# Altium footprint library GRC PCB library.PcbLib: 166 footprints (part 5 of 11)
Each footprint in its own frame and in the unit in brackets; x right, y up, seen from the top. Pads: shape width x height; smd on the part's side, far side on the other; paste and mask are expansions set on the pad; w line width, h text height; cw(c..) or ccw(c..) is an arc to the next point about the centre after c.
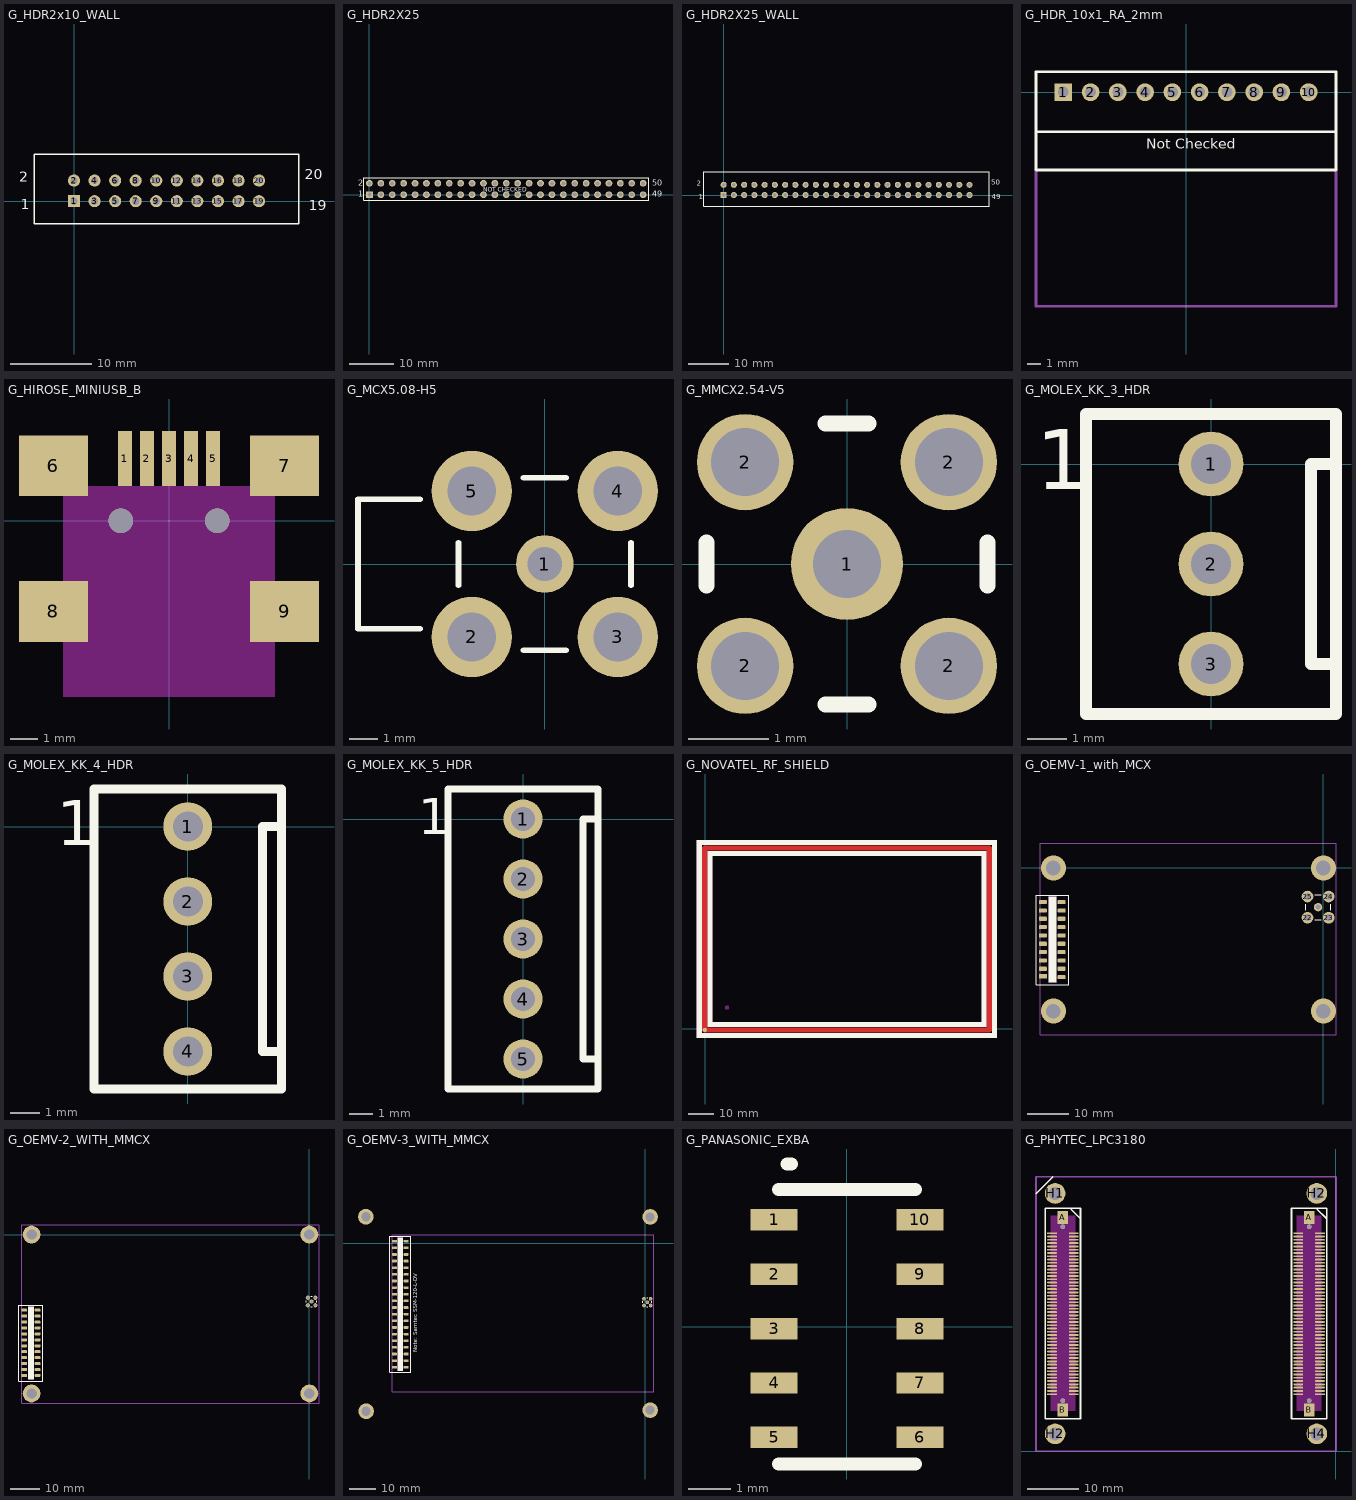
[diagram p4: the footprints below, top view; thin cyan lines are the x and y axes]

## G_HDR2x10_WALL [mm] "Connector; Wall Header; 10x2 Position"
height 8
pads (20):
  rect 1.5x1.5 hole 0.9: 1(0,0)
  round 1.5 hole 0.9: 2(0,2.54) 3(2.54,0) 4(2.54,2.54) 5(5.08,0) 6(5.08,2.54) 7(7.62,0) 8(7.62,2.54) 9(10.16,0) 10(10.16,2.54) 11(12.7,0) 12(12.7,2.54) 13(15.24,0) 14(15.24,2.54) 15(17.78,0) 16(17.78,2.54) 17(20.32,0) 18(20.32,2.54) 19(22.86,0) 20(22.86,2.54)
Top Overlay:
  lines w0.2: -4.928,-2.794 -4.928,5.791 1.905,5.791 27.788,5.791 27.788,-2.794 1.905,-2.794 -4.928,-2.794
  text "19" at 29,-1.1 h1.27
  text "20" at 28.5,2.7 h1.27
  text "1" at -6.6,-1 h1.27
  text "2" at -6.8,2.4 h1.27

## G_HDR2X25 [mm] "Connector; Header; 25x2 Position"
height 8
pads (50):
  rect 1.5x1.5 hole 0.9: 1(0,0)
  round 1.5 hole 0.9: 2(0,2.54) 3(2.54,0) 4(2.54,2.54) 5(5.08,0) 6(5.08,2.54) 7(7.62,0) 8(7.62,2.54) 9(10.16,0) 10(10.16,2.54) 11(12.7,0) 12(12.7,2.54) 13(15.24,0) 14(15.24,2.54) 15(17.78,0) 16(17.78,2.54) 17(20.32,0) 18(20.32,2.54) 19(22.86,0) 20(22.86,2.54) 21(25.4,0) 22(25.4,2.54) 23(27.94,0) 24(27.94,2.54) 25(30.48,0) 26(30.48,2.54) 27(33.02,0) 28(33.02,2.54) 29(35.56,0) 30(35.56,2.54) 31(38.1,0) 32(38.1,2.54) 33(40.64,0) 34(40.64,2.54) 35(43.18,0) 36(43.18,2.54) 37(45.72,0) 38(45.72,2.54) 39(48.26,0) 40(48.26,2.54) 41(50.8,0) 42(50.8,2.54) 43(53.34,0) 44(53.34,2.54) 45(55.88,0) 46(55.88,2.54) 47(58.42,0) 48(58.42,2.54) 49(60.96,0) 50(60.96,2.54)
Top Overlay:
  lines w0.2: -1.27,-1.27 -1.27,3.81 62.23,3.81 62.23,-1.27 -1.27,-1.27
  text "NOT CHECKED" at 25.3,0.7 h1
  text "2" at -2.54,2.032 h1.27
  text "1" at -2.54,-0.508 h1.27
  text "49" at 62.992,-0.508 h1.27
  text "50" at 62.992,2.032 h1.27

## G_HDR2X25_WALL [mm] "Connector; Wall Header; 25x2 Position,"
height 8
pads (50):
  rect 1.5x1.5 hole 0.9: 1(0,0)
  round 1.5 hole 0.9: 2(0,2.54) 3(2.54,0) 4(2.54,2.54) 5(5.08,0) 6(5.08,2.54) 7(7.62,0) 8(7.62,2.54) 9(10.16,0) 10(10.16,2.54) 11(12.7,0) 12(12.7,2.54) 13(15.24,0) 14(15.24,2.54) 15(17.78,0) 16(17.78,2.54) 17(20.32,0) 18(20.32,2.54) 19(22.86,0) 20(22.86,2.54) 21(25.4,0) 22(25.4,2.54) 23(27.94,0) 24(27.94,2.54) 25(30.48,0) 26(30.48,2.54) 27(33.02,0) 28(33.02,2.54) 29(35.56,0) 30(35.56,2.54) 31(38.1,0) 32(38.1,2.54) 33(40.64,0) 34(40.64,2.54) 35(43.18,0) 36(43.18,2.54) 37(45.72,0) 38(45.72,2.54) 39(48.26,0) 40(48.26,2.54) 41(50.8,0) 42(50.8,2.54) 43(53.34,0) 44(53.34,2.54) 45(55.88,0) 46(55.88,2.54) 47(58.42,0) 48(58.42,2.54) 49(60.96,0) 50(60.96,2.54)
Top Overlay:
  lines w0.2: -4.928,-2.794 -4.928,5.791 65.888,5.791 65.888,-2.794 -4.928,-2.794
  text "50" at 66.4,2.5 h1.27
  text "49" at 66.5,-1.1 h1.27
  text "1" at -6.2,-1 h1.27
  text "2" at -6.6,2.3 h1.27

## G_HDR_10x1_RA_2mm [mm] "Hirose DF3 series 10x1 Header 2mm Right Angle"
height 5
pads (10):
  rect 1.3x1.3 hole 0.8: 1(-9,0)
  round 1.3 hole 0.8: 2(-7,0) 3(-5,0) 4(-3,0) 5(-1,0) 6(1,0) 7(3,0) 8(5,0) 9(7,0) 10(9,0)
Top Overlay:
  lines w0.2: -11,-2.9 11,-2.9 ; -11,-5.7 11,-5.7 11,1.5 -11,1.5 -11,-5.7
  text "Not Checked" at -2.9,-4.4 h1.3
Mechanical 13:
  lines w0.2: -11,-5.7 -11,-15.7 11,-15.7 11,-5.7

## G_HIROSE_MINIUSB_B [mm]
pads (9):
  rect 0.5x2 smd: 1(-1.6,2.25) 2(-0.8,2.25) 3(0,2.25) 4(0.8,2.25) 5(1.6,2.25)
  rect 2.5x2.2 smd: 6(-4.2,2) 7(4.2,2) 8(-4.2,-3.3) 9(4.2,-3.3)
via -1.75,0 diameter 0.9 hole 0.9
via 1.75,0 diameter 0.9 hole 0.9
Keep-Out Layer:
  rectangle: -3.85,-6.4 3.85,1.25

## G_MCX5.08-H5 [mm] "Connector; RF Coaxial, MCX, Thru-Hole; 5 Position; Right-Angle"
height 5.85
pads (5):
  round 2 hole 1.2: 1(0,0)
  round 2.8 hole 1.7: 2(-2.54,-2.54) 3(2.54,-2.54) 4(2.54,2.54) 5(-2.54,2.54)
Top Overlay:
  lines w0.2: -4.34,-2.25 -6.5,-2.25 -6.5,2.25 -4.34,2.25 ; -3,-0.74 -3,0.74 ; -0.74,-3 0.74,-3 ; -0.74,3 0.74,3 ; 3,-0.74 3,0.74

## G_MMCX2.54-V5 [mm] "Connector; RF Coaxial, MMCX, Thru-Hole; 5 Position; Vertical"
height 4.45
pads (5):
  round 1.4 hole 0.85: 1(0,0)
  round 1.2 hole 0.85: 2(-1.27,-1.27) 2(-1.27,1.27) 2(1.27,-1.27) 2(1.27,1.27)
Top Overlay:
  lines w0.2: -1.75,-0.27 -1.75,0.27 ; -0.27,-1.75 0.27,-1.75 ; -0.27,1.75 0.27,1.75 ; 1.75,-0.27 1.75,0.27

## G_MOLEX_KK_3_HDR [mil]
height 472.44
pads (3):
  round 65 hole 40: 1(0,0) 2(0,-100) 3(0,-200)
Top Overlay:
  lines w12: 125,-225 125,-250 ; 125,-200 100,-200 100,0 125,0 ; 125,-250 125,50 -125,50 -125,-250 125,-250
  text "1" at -175,-25 h60

## G_MOLEX_KK_4_HDR [mil]
height 472.44
pads (4):
  round 65 hole 40: 1(0,0) 2(0,-100) 3(0,-200) 4(0,-300)
Top Overlay:
  lines w12: 125,-300 100,-300 100,0 125,0 ; -125,-350 125,-350 125,50 -125,50 -125,-350
  text "1" at -175,-25 h60

## G_MOLEX_KK_5_HDR [mil]
height 472.44
pads (5):
  round 65 hole 40: 1(0,0) 2(0,-100) 3(0,-200) 4(0,-300) 5(0,-400)
Top Overlay:
  lines w12: 125,-400 100,-400 100,0 125,0 ; -125,-450 -125,50 125,50 125,-450 -125,-450
  text "1" at -175,-25 h60

## G_NOVATEL_RF_SHIELD [mm] "RF metallic shield (box type) for Novatel OEMV-2 boards"
pads (2):
  round 1.651 smd: 0(-0.3,-0.4)
  round 1.651 on Keep-Out: " "(8.45,8.35)
Top Layer:
  lines w2: -0.3,-0.4 -0.3,70.6 110.7,70.6 110.7,-0.4 -0.3,-0.4
Top Overlay keep-out:
  region: 113.7,73.6 113.7,71.8 -3.3,71.8 -3.3,73.6
  region: 2.7,0.8 2.7,69.4 0.9,69.4 0.9,0.8
  region: 113.7,-3.4 113.7,72.6 111.9,72.6 111.9,-3.4
  region: -3.3,-3.4 -3.3,-1.6 113.7,-1.6 113.7,-3.4
  region: 109.5,69.4 109.5,67.6 0.9,67.6 0.9,69.4
  region: 109.5,0.8 109.5,69.4 107.7,69.4 107.7,0.8
  region: 0.9,0.8 0.9,2.6 109.5,2.6 109.5,0.8
  region: -3.3,-3.4 -3.3,73.6 -1.5,73.6 -1.5,-3.4

## G_OEMV-1_with_MCX [mm]
pads (25):
  rect 1.91x1.016 smd: 1(-67.25,-26)
  rrect50% 1.91x1.016 smd: 2(-62.806,-26.2) 3(-67.3,-24.2) 4(-62.806,-24.2) 5(-67.3,-22.2) 6(-62.806,-22.2) 7(-67.3,-20.2) 8(-62.806,-20.2) 9(-67.3,-18.2) 10(-62.806,-18.2) 11(-67.3,-16.2) 12(-62.806,-16.2) 13(-67.3,-14.2) 14(-62.806,-14.2) 15(-67.3,-12.2) 16(-62.806,-12.2) 17(-67.3,-10.2) 18(-62.806,-10.2) 19(-67.3,-8.2) 20(-62.806,-8.2)
  round 2 hole 1.2: 21(-1.25,-9.4)
  round 2.8 hole 1.7: 22(-3.79,-11.94) 23(1.29,-11.94) 24(1.29,-6.86) 25(-3.79,-6.86)
via -64.8,-34.35 diameter 6 hole 3.5
via 0,-34.35 diameter 6 hole 3.5
via 0,0 diameter 6 hole 3.5
via -64.8,0 diameter 6 hole 3.5
Top Overlay:
  lines w0.2: -4.25,-10.14 -4.25,-8.66 ; -1.99,-12.4 -0.51,-12.4 ; -1.99,-6.4 -0.51,-6.4 ; 1.75,-10.14 1.75,-8.66 ; -68.95,-28 -68.95,-6.5 -61.05,-6.5 -61.05,-28 -68.95,-28
Top Overlay keep-out:
  rectangle: -66,-27.45 -64,-6.9
Mechanical 13:
  lines w0.2: -67.95,-40.05 -67.95,5.95 3.05,5.95 3.05,-40.05 -67.95,-40.05

## G_OEMV-2_WITH_MMCX [mm]
pads (33):
  rect 1.91x1.016 smd: 1(-96,-47.45)
  rrect50% 1.91x1.016 smd: 2(-91.506,-47.45) 3(-96,-45.45) 4(-91.506,-45.45) 5(-96,-43.45) 6(-91.506,-43.45) 7(-96,-41.45) 8(-91.506,-41.45) 9(-96,-39.45) 10(-91.506,-39.45) 11(-96,-37.45) 12(-91.506,-37.45) 13(-96,-35.45) 14(-91.506,-35.45) 15(-96,-33.45) 16(-91.506,-33.45) 17(-96,-31.45) 18(-91.506,-31.45) 19(-96,-29.45) 20(-91.506,-29.45) 21(-96,-27.45) 22(-91.506,-27.45) 23(-96,-25.45) 24(-91.506,-25.45)
  round 1.4 hole 0.85: 25(0.75,-22.55) 26(-0.52,-23.82) 27(2.02,-23.82) 28(2.02,-21.28) 29(-0.52,-21.28)
  round 6 hole 3.5: " "(-93.5,-53.5) " "(-93.5,0) " "(0,-53.5) " "(0,0)
Top Overlay:
  lines w0.2: -1,-22.82 -1,-22.28 ; 0.48,-24.3 1.02,-24.3 ; 0.48,-20.8 1.02,-20.8 ; 2.5,-22.82 2.5,-22.28 ; -97.75,-49.35 -97.75,-23.75 -89.75,-23.75 -89.75,-49.35 -97.75,-49.35
Top Overlay keep-out:
  rectangle: -94.8,-48.8 -92.7,-24.2
Mechanical 13:
  lines w0.305: -96.75,-56.75 3.25,-56.75 3.25,3.25 -96.75,3.25 -96.75,-56.75

## G_OEMV-3_WITH_MMCX [mm] "Novatel OEM v3"
pads (49):
  rect 1.91x1.016 smd: 1(-96,-47.45)
  rrect50% 1.91x1.016 smd: 2(-91.506,-47.45) 3(-96,-44.91) 3(-96,-42.37) 3(-96,-39.83) 3(-96,-37.29) 3(-96,-34.75) 3(-96,-32.21) 3(-96,-29.67) 3(-96,-27.13) 3(-96,-24.59) 3(-96,-22.05) 3(-96,-19.51) 3(-96,-16.97) 3(-96,-14.43) 3(-96,-11.89) 3(-96,-9.35) 3(-96,-6.81) 3(-96,-4.27) 3(-96,-1.73) 3(-96,0.81) 4(-91.506,-44.91) 4(-91.506,-42.37) 4(-91.506,-39.83) 4(-91.506,-37.29) 4(-91.506,-34.75) 4(-91.506,-32.21) 4(-91.506,-29.67) 4(-91.506,-27.13) 4(-91.506,-24.59) 4(-91.506,-22.05) 4(-91.506,-19.51) 4(-91.506,-16.97) 4(-91.506,-14.43) 4(-91.506,-11.89) 4(-91.506,-9.35) 4(-91.506,-6.81) 4(-91.506,-4.27) 4(-91.506,-1.73) 4(-91.506,0.81)
  round 1.4 hole 0.85: 25(0.75,-22.55) 26(-0.52,-23.82) 27(2.02,-23.82) 28(2.02,-21.28) 29(-0.52,-21.28)
  round 6 hole 3.5: " "(-106.925,10.15) " "(-106.825,-64.275) " "(1.85,-63.85) " "(1.85,10.075)
Top Overlay:
  lines w0.2: -1,-22.82 -1,-22.28 ; 0.48,-24.3 1.02,-24.3 ; 0.48,-20.8 1.02,-20.8 ; 2.5,-22.82 2.5,-22.28 ; -97.75,-49.35 -89.75,-49.35 -89.75,2.725 -97.75,2.725 -97.75,-49.35
  text "Note: Samtec SSM-120-L-DV" at -87.275,-41.75 h1.52
Top Overlay keep-out:
  rectangle: -94.8,-48.8 -92.7,2.175
Mechanical 13:
  lines w0.305: -96.75,-56.75 -96.75,3.25 3.25,3.25 3.25,-56.75 -96.75,-56.75

## G_PANASONIC_EXBA [mm] "0603 x 5 footprint for resistor networks"
height 3.3
pads (10):
  rect 1.1x0.5 smd: 1(-1.7,2.5) 2(-1.7,1.23) 3(-1.7,-0.04) 4(-1.7,-1.31) 5(-1.7,-2.58) 6(1.7,-2.58) 7(1.7,-1.31) 8(1.7,-0.04) 9(1.7,1.23) 10(1.7,2.5)
Top Overlay:
  lines w0.305: -1.6,-3.2 1.6,-3.2 ; -1.6,3.2 1.6,3.2 ; -1.4,3.8 -1.3,3.8

## G_PHYTEC_LPC3180 [mm]
pads (212):
  rect 1.9x0.35 smd: 1A(-54.9,42.108) 1C(-7.3,42.108)
  oval 1.9x0.35 smd: 1B(-50.7,42.108) 1D(-3.1,42.108) 2A(-54.9,41.473) 2B(-50.7,41.473) 2C(-7.3,41.473) 2D(-3.1,41.473) 3A(-54.9,40.838) 3B(-50.7,40.838) 3C(-7.3,40.838) 3D(-3.1,40.838) 4A(-54.9,40.203) 4B(-50.7,40.203) 4C(-7.3,40.203) 4D(-3.1,40.203) 5A(-54.9,39.568) 5B(-50.7,39.568) 5C(-7.3,39.568) 5D(-3.1,39.568) 6A(-54.9,38.933) 6B(-50.7,38.933) 6C(-7.3,38.933) 6D(-3.1,38.933) 7A(-54.9,38.298) 7B(-50.7,38.298) 7C(-7.3,38.298) 7D(-3.1,38.298) 8A(-54.9,37.663) 8B(-50.7,37.663) 8C(-7.3,37.663) 8D(-3.1,37.663) 9A(-54.9,37.028) 9B(-50.7,37.028) 9C(-7.3,37.028) 9D(-3.1,37.028) 10A(-54.9,36.393) 10B(-50.7,36.393) 10C(-7.3,36.393) 10D(-3.1,36.393) 11A(-54.9,35.758) 11B(-50.7,35.758) 11C(-7.3,35.758) 11D(-3.1,35.758) 12A(-54.9,35.123) 12B(-50.7,35.123) 12C(-7.3,35.123) 12D(-3.1,35.123) 13A(-54.9,34.488) 13B(-50.7,34.488) 13C(-7.3,34.488) 13D(-3.1,34.488) 14A(-54.9,33.853) 14B(-50.7,33.853) 14C(-7.3,33.853) 14D(-3.1,33.853) 15A(-54.9,33.218) 15B(-50.7,33.218) 15C(-7.3,33.218) 15D(-3.1,33.218) 16A(-54.9,32.583) 16B(-50.7,32.583) 16C(-7.3,32.583) 16D(-3.1,32.583) 17A(-54.9,31.948) 17B(-50.7,31.948) 17C(-7.3,31.948) 17D(-3.1,31.948) 18A(-54.9,31.313) 18B(-50.7,31.313) 18C(-7.3,31.313) 18D(-3.1,31.313) 19A(-54.9,30.678) 19B(-50.7,30.678) 19C(-7.3,30.678) 19D(-3.1,30.678) 20A(-54.9,30.043) 20B(-50.7,30.043) 20C(-7.3,30.043) 20D(-3.1,30.043) 21A(-54.9,29.408) 21B(-50.7,29.408) 21C(-7.3,29.408) 21D(-3.1,29.408) 22A(-54.9,28.773) 22B(-50.7,28.773) 22C(-7.3,28.773) 22D(-3.1,28.773) 23A(-54.9,28.138) 23B(-50.7,28.138) 23C(-7.3,28.138) 23D(-3.1,28.138) 24A(-54.9,27.503) 24B(-50.7,27.503) 24C(-7.3,27.503) 24D(-3.1,27.503) 25A(-54.9,26.868) 25B(-50.7,26.868) 25C(-7.3,26.868) 25D(-3.1,26.868) 26A(-54.9,26.233) 26B(-50.7,26.233) 26C(-7.3,26.233) 26D(-3.1,26.233) 27A(-54.9,25.598) 27B(-50.7,25.598) 27C(-7.3,25.598) 27D(-3.1,25.598) 28A(-54.9,24.963) 28B(-50.7,24.963) 28C(-7.3,24.963) 28D(-3.1,24.963) 29A(-54.9,24.328) 29B(-50.7,24.328) 29C(-7.3,24.328) 29D(-3.1,24.328) 30A(-54.9,23.693) 30B(-50.7,23.693) 30C(-7.3,23.693) 30D(-3.1,23.693) 31A(-54.9,23.058) 31B(-50.7,23.058) 31C(-7.3,23.058) 31D(-3.1,23.058) 32A(-54.9,22.423) 32B(-50.7,22.423) 32C(-7.3,22.423) 32D(-3.1,22.423) 33A(-54.9,21.788) 33B(-50.7,21.788) 33C(-7.3,21.788) 33D(-3.1,21.788) 34A(-54.9,21.153) 34B(-50.7,21.153) 34C(-7.3,21.153) 34D(-3.1,21.153) 35A(-54.9,20.518) 35B(-50.7,20.518) 35C(-7.3,20.518) 35D(-3.1,20.518) 36A(-54.9,19.883) 36B(-50.7,19.883) 36C(-7.3,19.883) 36D(-3.1,19.883) 37A(-54.9,19.248) 37B(-50.7,19.248) 37C(-7.3,19.248) 37D(-3.1,19.248) 38A(-54.9,18.613) 38B(-50.7,18.613) 38C(-7.3,18.613) 38D(-3.1,18.613) 39A(-54.9,17.978) 39B(-50.7,17.978) 39C(-7.3,17.978) 39D(-3.1,17.978) 40A(-54.9,17.343) 40B(-50.7,17.343) 40C(-7.3,17.343) 40D(-3.1,17.343) 41A(-54.9,16.708) 41B(-50.7,16.708) 41C(-7.3,16.708) 41D(-3.1,16.708) 42A(-54.9,16.073) 42B(-50.7,16.073) 42C(-7.3,16.073) 42D(-3.1,16.073) 43A(-54.9,15.438) 43B(-50.7,15.438) 43C(-7.3,15.438) 43D(-3.1,15.438) 44A(-54.9,14.803) 44B(-50.7,14.803) 44C(-7.3,14.803) 44D(-3.1,14.803) 45A(-54.9,14.168) 45B(-50.7,14.168) 45C(-7.3,14.168) 45D(-3.1,14.168) 46A(-54.9,13.533) 46B(-50.7,13.533) 46C(-7.3,13.533) 46D(-3.1,13.533) 47A(-54.9,12.898) 47B(-50.7,12.898) 47C(-7.3,12.898) 47D(-3.1,12.898) 48A(-54.9,12.263) 48B(-50.7,12.263) 48C(-7.3,12.263) 48D(-3.1,12.263) 49A(-54.9,11.628) 49B(-50.7,11.628) 49C(-7.3,11.628) 49D(-3.1,11.628) 50A(-54.9,10.993) 50B(-50.7,10.993) 50C(-7.3,10.993) 50D(-3.1,10.993)
  round 0.9 hole 0.9: 3(-52.8,9.74) 3(-52.8,43.36) 3(-5.2,9.74) 3(-5.2,43.36)
  rect 2x2.5 smd: A(-52.8,45.16) A(-5.2,45.16) B(-52.8,7.94) B(-5.2,7.94)
  round 4 hole 2.5: H1(-54.3,49.81) H2(-54.3,3.33) H2(-3.72,49.81) H4(-3.72,3.33)
Top Overlay:
  lines w0.305: -57.975,49.775 -54.75,53 ; -51.2,46.908 -51.2,46.708 -49.5,45.008 ; -3.6,46.908 -3.6,46.708 -1.9,45.008 ; -56.2,6.208 -49.4,6.208 -49.4,46.908 -56.2,46.908 -56.2,6.208 ; -8.6,6.208 -8.6,46.908 -1.8,46.908 -1.8,6.208 -8.6,6.208
Keep-Out Layer:
  rectangle: -55.2,7.708 -50.4,45.508
  rectangle: -7.6,7.708 -2.8,45.508
Mechanical 13:
  lines w0.305: -58,0 0,0 0,53 -58,53 -58,0